# Altium footprint library Nano_Particle_Breakout.PcbLib: 2 footprints
Each footprint in its own frame and in the unit in brackets; x right, y up, seen from the top. Pads: shape width x height; smd on the part's side, far side on the other; paste and mask are expansions set on the pad; w line width, h text height; cw(c..) or ccw(c..) is an arc to the next point about the centre after c.
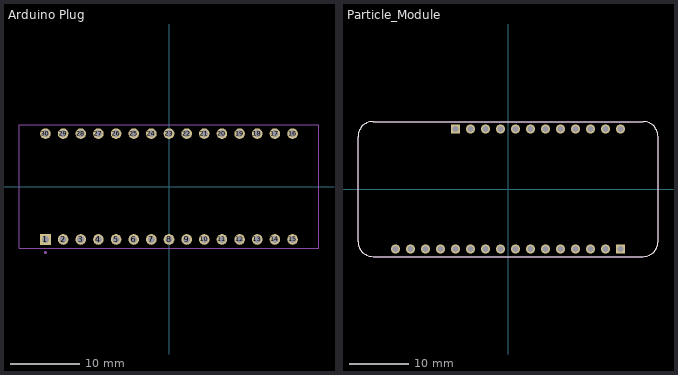
[diagram p0: the footprints below, top view; thin cyan lines are the x and y axes]

## Arduino Plug [mil]
pads (30):
  rect 60x60 hole 40: 1(-700,-300)
  round 60 hole 40: 2(-600,-300) 3(-500,-300) 4(-400,-300) 5(-300,-300) 6(-200,-300) 7(-100,-300) 8(0,-300) 9(100,-300) 10(200,-300) 11(300,-300) 12(400,-300) 13(500,-300) 14(600,-300) 15(700,-300) 16(700,300) 17(600,300) 18(500,300) 19(400,300) 20(300,300) 21(200,300) 22(100,300) 23(0,300) 24(-100,300) 25(-200,300) 26(-300,300) 27(-400,300) 28(-500,300) 29(-600,300) 30(-700,300)
Bottom Overlay:
  circle w7.87: c-700,-374.02 r3.94
  lines w5: -850,-350 850,-350 850,350 -850,350 -850,-350
Mechanical 13:
  circle w7.87: c-700,-374.02 r3.94
  lines w5: -850,-350 -850,350 850,350 850,-350 -850,-350

## Particle_Module [mm]
pads (28):
  rect 1.53x1.53 hole 1.02: P1_1(19.05,-10.16) P2_1(-8.89,10.16)
  round 1.53 hole 1.02: P1_2(16.51,-10.16) P1_3(13.97,-10.16) P1_4(11.43,-10.16) P1_5(8.89,-10.16) P1_6(6.35,-10.16) P1_7(3.81,-10.16) P1_8(1.27,-10.16) P1_9(-1.27,-10.16) P1_10(-3.81,-10.16) P1_11(-6.35,-10.16) P1_12(-8.89,-10.16) P1_13(-11.43,-10.16) P1_14(-13.97,-10.16) P1_15(-16.51,-10.16) P1_16(-19.05,-10.16) P2_2(-6.35,10.16) P2_3(-3.81,10.16) P2_4(-1.27,10.16) P2_5(1.27,10.16) P2_6(3.81,10.16) P2_7(6.35,10.16) P2_8(8.89,10.16) P2_9(11.43,10.16) P2_10(13.97,10.16) P2_11(16.51,10.16) P2_12(19.05,10.16)
Top Overlay:
  lines w0.127: -25.4,-8.89 ccw(c-22.86,-8.89) -22.86,-11.43 22.86,-11.43 ccw(c22.86,-8.89) 25.4,-8.89 25.4,8.89 ccw(c22.86,8.89) 22.86,11.43 -22.86,11.43 ccw(c-22.86,8.89) -25.4,8.89 -25.4,-8.89
Mechanical 13:
  lines w0.127: -25.4,-8.89 ccw(c-22.86,-8.89) -22.86,-11.43 22.86,-11.43 ccw(c22.86,-8.89) 25.4,-8.89 25.4,8.89 ccw(c22.86,8.89) 22.86,11.43 -22.86,11.43 ccw(c-22.86,8.89) -25.4,8.89 -25.4,-8.89